# Altium schematic symbol library Connectors.SchLib: 18 symbols
Pins are listed as number, name and electrical type; pins without a type are passive.

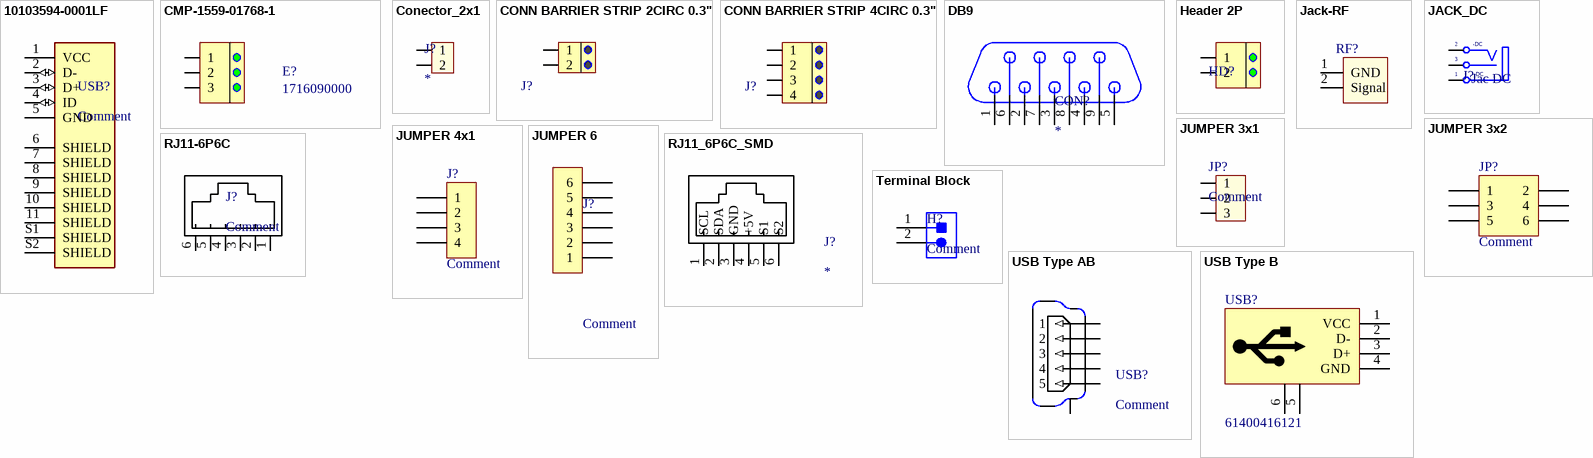
[diagram p0: symbols 10103594-0001LF to USB Type B]

## 10103594-0001LF
designator USB?, comment Comment
pins: 1 VCC (power), 2 D- (io), 3 D+ (io), 4 ID (io), 5 GND (power), 6 SHIELD, 7 SHIELD, 8 SHIELD, 9 SHIELD, 10 SHIELD, 11 SHIELD, S1 SHIELD, S2 SHIELD

## CMP-1559-01768-1
designator E?, comment 1716090000
OMNIMATE Signal - series LM; Manufacturer: Weidmueller; Contact_surface: tinned; Pitch_mm: 5,08 mm; Solder_pin_length_mm: 3,5 mm; Contact_material: Cu-Leg; Wire_cross_section_AWG_min_UL_1059: AWG 24; Solid_min_H05_07_V_U: 0,2 mm²; Insulating_material: Wemid (PA); Solid_max_H05_07_V_U: 2,5 mm²; Pitch_inch: 0,2 inch; Wire_cross_section_AWG_max_UL_1059: AWG 14; UL_94_flammability_rating: V-0; No_of_poles: 3; Rated_voltage_use_group_B_UL_1059: 300 V; Mounting_onto_the_PCB: Solder connection; Side_termination_characteristic: closed side; Short_text_for_material: LM 5.08/03/90 3.5SN OR BX; Rated_current_use_group_B_UL_1059: 15 A; Rated_voltage_for_surge_voltage_class_pollution_degree_II_2: 630 V; Revision: V1; ComponentLink2URL: http://catalog.weidmueller.com/catalog/Start.do?localeId=en&ObjectID=1716090000; Colour: Orange; PackageReference: LM_5_08_90_03; ComponentLink1Description: Manufacturer URL; ComponentLink2Description: URL Link1; ComponentLink1URL: http://www.weidmueller.com/; Qty: 500 PCS; PartNumber: 1716090000; Packaging: Box
footprint LM_5_08_90_03 (OMNIMATE Signal - Serie LM  LM 5.08/03/90 3.5)
pins: 1, 2, 3
1 alternate drawing of the same symbol

## Conector_2x1
designator J?
CONN HEADER VERT 2POS 2.54MM
pins: 1, 2

## CONN BARRIER STRIP 2CIRC 0.3"
designator J?, comment Comment  (value not drawn)
CONN BARRIER STRIP 2CIRC 0.3"
pins: 1, 2

## CONN BARRIER STRIP 4CIRC 0.3"
designator J?, comment Comment  (value not drawn)
CONN BARRIER STRIP 4CIRC 0.3"
pins: 1, 2, 3, 4

## DB9
designator CON?
Adapter Connector D-Sub, 9 Pin Female To Modular, Female Jack, 8p8c _RJ45_ Beige
pins: 1, 2, 3, 4, 5, 6, 7, 8, 9

## Header 2P
designator HD?, comment OSTTC-02-2162  (value not drawn)
Terminal Block 2 Poles 5.08mm Blue
pins: 1, 2

## Jack-RF
designator RF?  (value not drawn)
pins: 1 GND, 2 Signal

## JACK_DC
designator J?, comment Jac DC
Jac DC input; Value: Jac DC
pins: 1 T "Tip", 2 TN "Tip Normal (Break Contact)", 3 S (power) "Sleeve (Ground)"
text: -DC; +DC

## JUMPER 3x1
designator JP?, comment Comment
pins: 1, 2, 3

## JUMPER 3x2
designator JP?, comment Comment
pins: 1, 2, 3, 4, 5, 6

## JUMPER 4x1
designator J?, comment Comment
pins: 1, 2, 3, 4

## JUMPER 6
designator J?, comment Comment
pins: 1, 2, 3, 4, 5, 6

## RJ11-6P6C
designator J?, comment Comment
pins: 1, 2, 3, 4, 5, 6

## RJ11_6P6C_SMD
designator J?
pins: 1 SCL, 2 SDA, 3 GND, 4 +5V, 5 S1, 6 S2

## Terminal Block
designator H?, comment Comment
pins: 1, 2

## USB Type AB
designator USB?, comment Comment
pins: 1 (in), 2 (in), 3 (in), 4 (in), 5 (in), M1 C (io), M2 C (io), M3 C (io), M4 C (io)

## USB Type B
designator USB?, comment 61400416121
CONN COM TYPE B USB HORZ 4POS
pins: 1 VCC, 2 D-, 3 D+, 4 GND, 5 GND, 6 GND (power)